# Altium schematic symbol library TPS75003.Schlib: 1 symbol
Pins are listed as number, name and electrical type; pins without a type are passive.

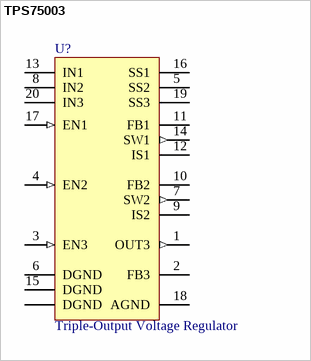
[diagram p0: symbol TPS75003]

## TPS75003
designator U?, comment Triple-Output Voltage Regulator
Triple-Supply Power Management IC; Package Information: Latest Revision: ver11.0, Feb-2003; Configures: APEX II, APEX 20K, Mercury, ACEX 1K & FLEX Devices; Code - JEDEC: MS-026-ABA; Published: 17-Sep-2003; Datasheet: Latest Revision: ver1.1, Oct-2003; Package Reference: TQFP32; Publisher: Altium Limited
footprint PQFP_N20 (PLastic Quad FlatPack (Texas Instruments))
pins: 0 DGND (power) "Thermal Pad", 1 OUT3 (out), 2 FB3 (power), 3 EN3 (in), 4 EN2 (in), 5 SS2, 6 DGND (power), 7 SW2 (out), 8 IN2 (power), 9 IS2, 10 FB2 (power), 11 FB1 (power), 12 IS1, 13 IN1 (power), 14 SW1 (out), 15 DGND (power), 16 SS1, 17 EN1 (in), 18 AGND (power), 19 SS3, 20 IN3 (power)